# Altium footprint library PCB_Lib.PcbLib: 14 footprints
Each footprint in its own frame and in the unit in brackets; x right, y up, seen from the top. Pads: shape width x height; smd on the part's side, far side on the other; paste and mask are expansions set on the pad; w line width, h text height; cw(c..) or ccw(c..) is an arc to the next point about the centre after c.
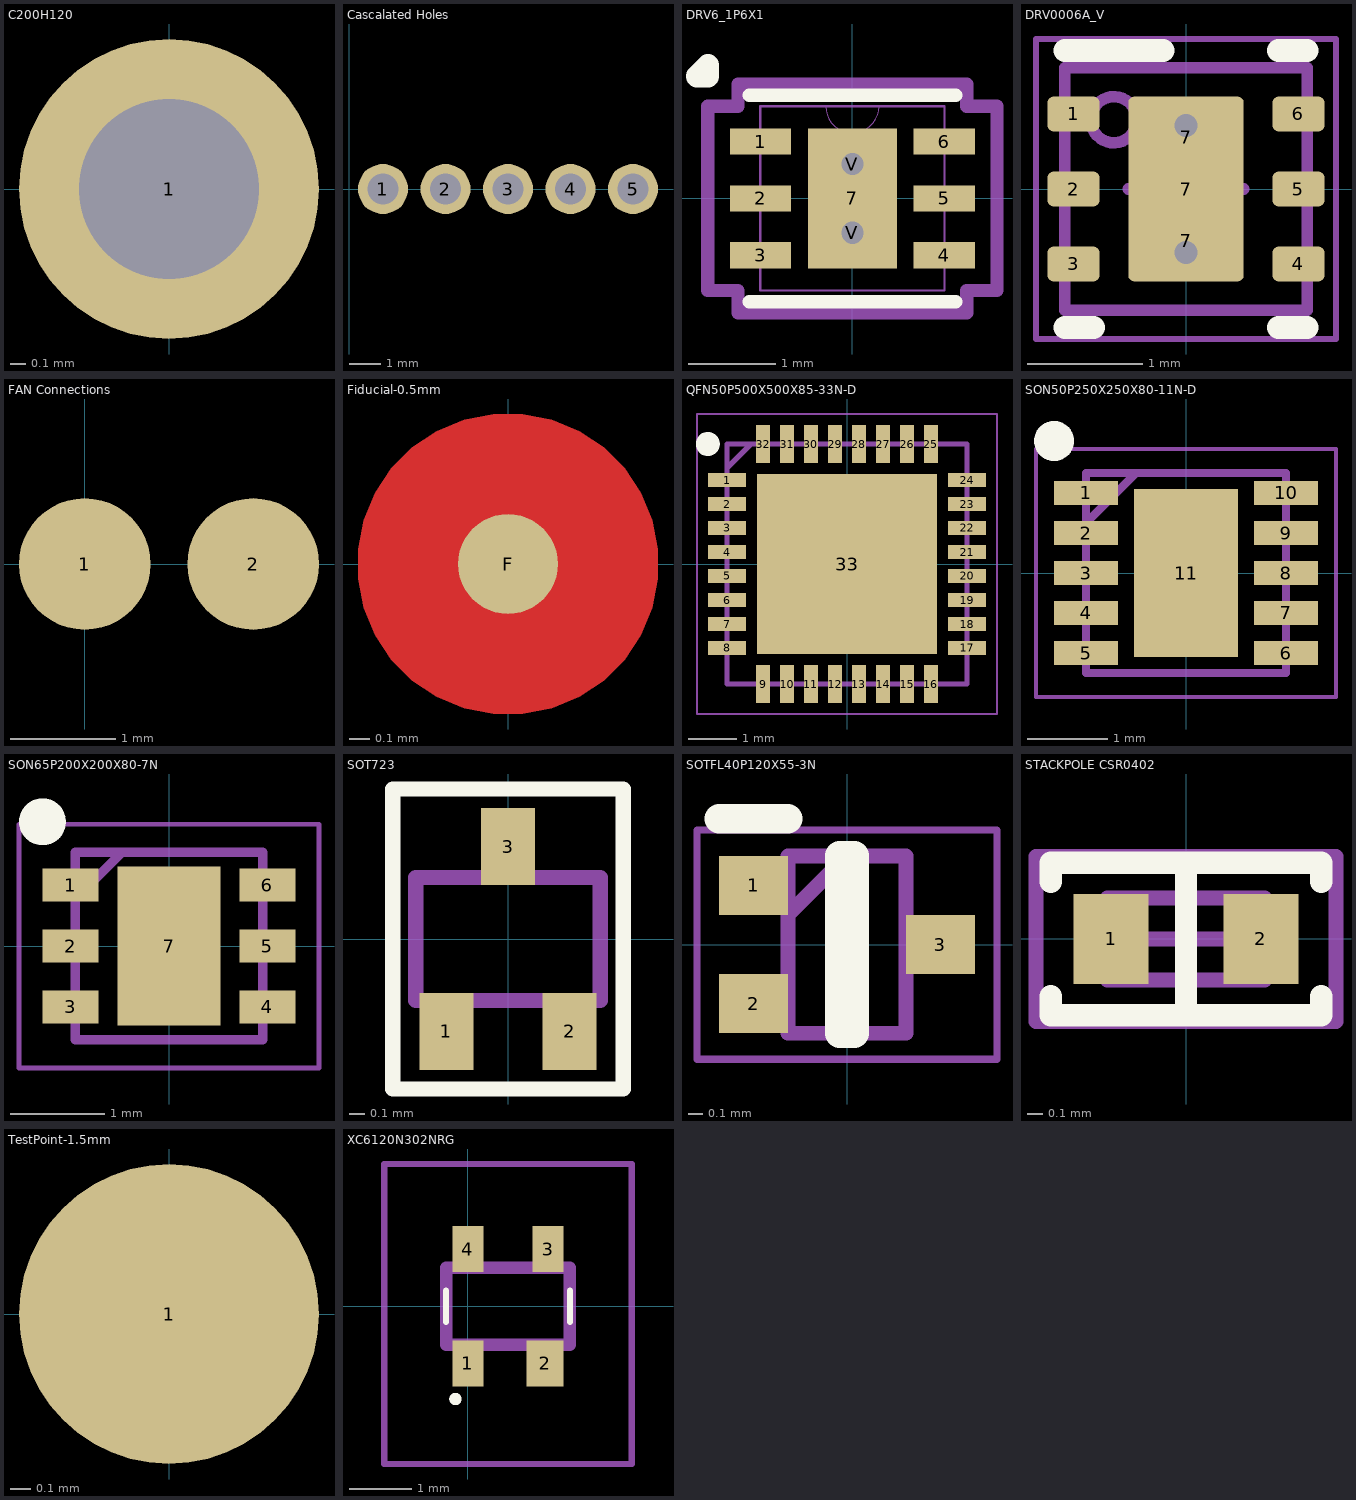
[diagram p0: the footprints below, top view; thin cyan lines are the x and y axes]

## C200H120 [mm] "Plated Through Hole: Hole Dia.=1.2mm Pad Dia.=2.0mm"
pads (1):
  round 2 hole 1.2: 1(0,0)

## Cascalated Holes [mm] "Plated Through Hole: Hole Dia.=1.2mm Pad Dia.=2.0mm"
pads (5):
  round 1.6 hole 1: 1(1.08,0) 2(3.08,0) 3(5.08,0) 4(7.08,0) 5(9.08,0)

## DRV6_1P6X1 [mm]
pads (9):
  rect 0.7x0.3 smd paste-0.15 mask+0: 1(-1.05,0.65) 2(-1.05,0) 3(-1.05,-0.65) 4(1.05,-0.65) 5(1.05,0) 6(1.05,0.65)
  rect 1.016x1.6 smd paste-0.787 mask-0.787: 7(0,0)
  round 0.508 hole 0.254: V(0,-0.394) V(0,0.394)
Top Layer:
  region: 0,0.8
  region: 0,-0.8
Top Overlay:
  lines w0.152: -1.181,-1.181 1.181,-1.181 ; -1.181,1.181 1.181,1.181
  lines w0.254: -1.778,1.397 -1.651,1.397 -1.651,1.524 -1.778,1.397
Top Paste:
  region: -0.1,0.725 -0.433,0.725 -0.433,0.494 -0.241,0.494 -0.1,0.635
  region: -0.241,0.294 -0.433,0.294 -0.433,-0.294 -0.241,-0.294 -0.1,-0.152 -0.1,0.152
  region: -0.241,-0.494 -0.433,-0.494 -0.433,-0.725 -0.1,-0.725 -0.1,-0.635
  region: 0.433,0.725 0.1,0.725 0.1,0.635 0.241,0.494 0.433,0.494
  region: 0.433,0.294 0.241,0.294 0.1,0.152 0.1,-0.152 0.241,-0.294 0.433,-0.294
  region: 0.433,-0.494 0.241,-0.494 0.1,-0.635 0.1,-0.725 0.433,-0.725
Top Solder:
  region: -0.572,0.594 -0.572,0.864 0.572,0.864 0.572,0.594
  region: -0.572,-0.194 -0.572,0.194 0.572,0.194 0.572,-0.194
  region: -0.572,-0.864 -0.572,-0.594 0.572,-0.594 0.572,-0.864
  region: -0.572,-0.864 -0.572,0.864 -0.2,0.864 -0.2,-0.864
  region: 0.2,-0.864 0.2,0.864 0.572,0.864 0.572,-0.864
  region: 0,0.8
  region: 0,-0.8
Mechanical 13:
  lines w0: -0.305,1.054 ccw(c0,1.054) 0.305,1.054
  lines w0.025: -1.054,-1.054 1.054,-1.054 1.054,1.054 -1.054,1.054 -1.054,-1.054
Mechanical 15:
  lines w0.152: -1.654,-1.054 -1.654,1.054 -1.308,1.054 -1.308,1.308 1.308,1.308 1.308,1.054 1.654,1.054 1.654,-1.054 1.308,-1.054 1.308,-1.308 -1.308,-1.308 -1.308,-1.054 -1.654,-1.054
3D body "DRV0006A.stp": height 0.8, standoff 0, extent -1,-1 1,1
3D body: height 0.25, standoff 0, extent 0,0 0.254,0.254

## DRV0006A_V [mm] "SON, 6-Leads, Body 2x2mm, Pitch 0.65mm, Thermal Pad 1.6x1mm, TI Recommended"
height 0.8
pads (9):
  rrect33% 0.45x0.3 smd: 1(-0.975,0.65) 2(-0.975,0) 3(-0.975,-0.65) 4(0.975,-0.65) 5(0.975,0) 6(0.975,0.65)
  rrect14% 1x0.7 on Top Paste: 7(0,-0.45) 7(0,0.45)
  rrect10% 1x1.6 smd paste-0.5: 7(0,0)
via 0,-0.55 diameter 0.5 hole 0.2
via 0,0.55 diameter 0.5 hole 0.2
Top Overlay:
  lines w0.2: -1.05,-1.2 -0.8,-1.2 ; -1.05,1.2 -0.2,1.2 ; 0.8,-1.2 1.05,-1.2 ; 0.8,1.2 1.05,1.2
Mechanical 1:
  text ".Designator" at -0.9,-0.5 h0.51
Mechanical 13:
  circle w0.1: c-0.625,0.6 r0.2
  lines w0.1: -1.05,-1.05 1.05,-1.05 1.05,1.05 -1.05,1.05 -1.05,-1.05
Mechanical 15:
  lines w0.05: -1.3,-1.3 1.3,-1.3 1.3,1.3 -1.3,1.3 -1.3,-1.3
  lines w0.1: -0.5,0 0.5,0 ; 0,-0.5 0,0.5
3D body: height 0.8, standoff 0, extent -1.05,-1.05 1.05,1.05
3D body: height 0.81, standoff 0.5, extent -0.824,0.401 -0.426,0.799

## FAN Connections [mm]
pads (2):
  round 1.25 smd: 1(0,0) 2(1.6,0)

## Fiducial-0.5mm [mm]
pads (1):
  round 0.5 smd paste-1 mask+0.5: F(0,0)
Top Layer:
  pour cut-out: 0,0
  pour cut-out: -0.75,0 -0.75,0.074 -0.721,0.219 -0.665,0.355 -0.583,0.478 -0.478,0.583 -0.355,0.665 -0.219,0.721 -0.074,0.75 0,0.75 0.074,0.75 0.219,0.721 0.355,0.665 0.478,0.583 0.583,0.478 0.665,0.355 0.721,0.219 0.75,0.074 0.75,0 0.75,-0.074 0.721,-0.219 0.665,-0.355 0.583,-0.478 0.478,-0.583 0.355,-0.665 0.219,-0.721 0.074,-0.75 0,-0.75 -0.074,-0.75 -0.219,-0.721 -0.355,-0.665 -0.478,-0.583 -0.583,-0.478 -0.665,-0.355 -0.721,-0.219 -0.75,-0.074

## QFN50P500X500X85-33N-D [mm]
pads (33):
  rect 0.8x0.3 smd mask+0.068: 1(-2.5,1.75) 2(-2.5,1.25) 3(-2.5,0.75) 4(-2.5,0.25) 5(-2.5,-0.25) 6(-2.5,-0.75) 7(-2.5,-1.25) 8(-2.5,-1.75) 17(2.5,-1.75) 18(2.5,-1.25) 19(2.5,-0.75) 20(2.5,-0.25) 21(2.5,0.25) 22(2.5,0.75) 23(2.5,1.25) 24(2.5,1.75)
  rect 0.3x0.8 smd mask+0.068: 9(-1.75,-2.5) 10(-1.25,-2.5) 11(-0.75,-2.5) 12(-0.25,-2.5) 13(0.25,-2.5) 14(0.75,-2.5) 15(1.25,-2.5) 16(1.75,-2.5) 25(1.75,2.5) 26(1.25,2.5) 27(0.75,2.5) 28(0.25,2.5) 29(-0.25,2.5) 30(-0.75,2.5) 31(-1.25,2.5) 32(-1.75,2.5)
  rect 3.75x3.75 smd: 33(0,0)
Top Overlay:
  circle w0.25: c-2.9,2.5 r0.125
Mechanical 13:
  lines w0.1: -2.5,2 -2,2.5 ; -2.5,-2.5 -2.5,2.5 2.5,2.5 2.5,-2.5 -2.5,-2.5
Mechanical 15:
  lines w0.05: -3.125,-3.125 -3.125,3.125 3.125,3.125 3.125,-3.125 -3.125,-3.125
3D body "LPC804M101JHI33E.stp": height 0.85, standoff 0, extent -2.55,-2.55 2.55,2.55

## SON50P250X250X80-11N-D [mm]
pads (11):
  rect 0.8x0.3 smd: 1(-1.25,1) 2(-1.25,0.5) 3(-1.25,0) 4(-1.25,-0.5) 5(-1.25,-1) 6(1.25,-1) 7(1.25,-0.5) 8(1.25,0) 9(1.25,0.5) 10(1.25,1)
  rect 1.3x2.1 smd: 11(0,0)
Top Overlay:
  circle w0.25: c-1.65,1.65 r0.125
Mechanical 13:
  lines w0.1: -1.25,0.625 -0.625,1.25 ; -1.25,-1.25 1.25,-1.25 1.25,1.25 -1.25,1.25 -1.25,-1.25
Mechanical 15:
  lines w0.05: -1.875,-1.55 1.875,-1.55 1.875,1.55 -1.875,1.55 -1.875,-1.55
3D body "TSP63900.stp": height 0.8, standoff 0, extent -1.3,-1.25 1.3,1.25

## SON65P200X200X80-7N [mm]
pads (7):
  rect 0.6x0.35 smd: 1(-1.05,0.65) 2(-1.05,0) 3(-1.05,-0.65) 4(1.05,-0.65) 5(1.05,0) 6(1.05,0.65)
  rect 1.1x1.7 smd: 7(0,0)
Top Overlay:
  circle w0.25: c-1.35,1.325 r0.125
Mechanical 13:
  lines w0.1: -1,0.5 -0.5,1 ; -1,-1 1,-1 1,1 -1,1 -1,-1
Mechanical 15:
  lines w0.05: -1.6,-1.3 1.6,-1.3 1.6,1.3 -1.6,1.3 -1.6,-1.3
3D body "TPS61240IDRVRQ1.stp": height 0.8, standoff 0, extent -1.05,-1 1.05,1

## SOT723 [mm]
pads (3):
  rect 0.35x0.5 smd mask+0.05: 1(-0.4,-0.6) 2(0.4,-0.6) 3(0,0.6)
Top Overlay:
  lines w0.1: -0.75,-0.975 0.75,-0.975 0.75,0.975 -0.75,0.975 -0.75,-0.975
Mechanical 15:
  lines w0.1: -0.6,-0.4 0.6,-0.4 0.6,0.4 -0.6,0.4 -0.6,-0.4
  text ".Designator" at -0.85,-0.25 h0.5
3D body "User Library-SOT-723.STEP": height 0.45, standoff -0.01, extent -0.625,-0.525 0.625,0.525

## SOTFL40P120X55-3N [mm]
pads (3):
  rect 0.465x0.4 smd: 1(-0.632,0.4) 2(-0.632,-0.4) 3(0.632,0)
Top Overlay:
  lines w0.2: -0.865,0.85 -0.4,0.85 ; -0.05,-0.6 -0.05,0.6 0.05,0.6 0.05,-0.6 -0.05,-0.6
Mechanical 13:
  lines w0.1: -0.4,0.2 0,0.6 ; -0.4,-0.6 -0.4,0.6 0.4,0.6 0.4,-0.6 -0.4,-0.6
Mechanical 15:
  lines w0.05: -1.015,-0.775 -1.015,0.775 1.015,0.775 1.015,-0.775 -1.015,-0.775
3D body "ESD7C3.3DT5G.stp": height 0.55, standoff 0, extent -0.6,-0.6 0.6,0.6

## STACKPOLE CSR0402 [mm] "Chip Resistor, 2-Leads, Body 1.0x0.5mm, IPC Medium Density"
height 0.4
pads (2):
  rect 0.5x0.6 smd: 1(-0.5,0) 2(0.5,0)
Top Overlay:
  lines w0.15: -0.9,-0.381 -0.9,-0.508 0.9,-0.508 0.9,-0.381 ; -0.9,0.381 -0.9,0.508 0.9,0.508 0.9,0.381 ; 0,-0.508 0,0.508
Mechanical 13:
  lines w0.1: -0.525,-0.275 -0.525,0.275 0.525,0.275 0.525,-0.275 -0.525,-0.275
Mechanical 15:
  lines w0.1: -0.275,0 0.275,0 ; 0,-0.275 0,0.275 ; -1,-0.55 -1,0.55 1,0.55 1,-0.55 -1,-0.55
3D body "Stackpole CSR0402 Res.STEP": height 0.32, standoff 0, extent -0.525,-0.25 0.525,0.25

## TestPoint-1.5mm [mm]
pads (1):
  round 1.5 smd: 1(0,0)

## XC6120N302NRG [mm]
pads (4):
  rect 0.5x0.75 smd: 1(0,-0.925) 3(1.3,0.925) 4(0,0.925)
  rect 0.6x0.75 smd: 2(1.25,-0.925)
Top Overlay:
  lines w0.1: -0.35,-0.25 -0.35,0.25 ; 1.65,-0.25 1.65,0.25 ; -0.25,-1.5 cw(c-0.2,-1.5) -0.15,-1.5 cw(c-0.2,-1.5) -0.25,-1.5
Mechanical 13:
  lines w0.2: -0.35,-0.625 -0.35,0.625 1.65,0.625 1.65,-0.625 -0.35,-0.625
Mechanical 15:
  lines w0.1: -1.35,-2.55 -1.35,2.3 2.65,2.3 2.65,-2.55 -1.35,-2.55
3D body "XC6120N302NR-G.stp": height 1.2, standoff 0, extent -0.35,-0.625 1.65,0.625